# EAGLE library part CM6300 (library cmedia)
CM6300 is a highly integrated single chip for USB stereo speakers and headphone set application. With less external components, it can be used for building an USB speaker or headphone set solution easily. CM6300 needn’t any proprietary driver for audio playback or recording and all of audio functions are supported by major OS. As well as CM6300 provides a truly plug-and-play features for external digital audio playback. CM6300 contains embedded 2ch output with DRC managements. The Dynamic Range Control function can support high efficiency volume output and implement loudness sound effect, which is similar D class amplifier capabili ty. Moreover, CM6300 supports USB standard HID Interface which provide Vol_up / Vol_dn / Play_mute Butoms and 3 LED indicator pins: On / Off / Operation / playback mute / recording mute / and controllable flash time (with PWM Functions). Library by Dimitri Albino - ALDI Technology www.alditechnology.com
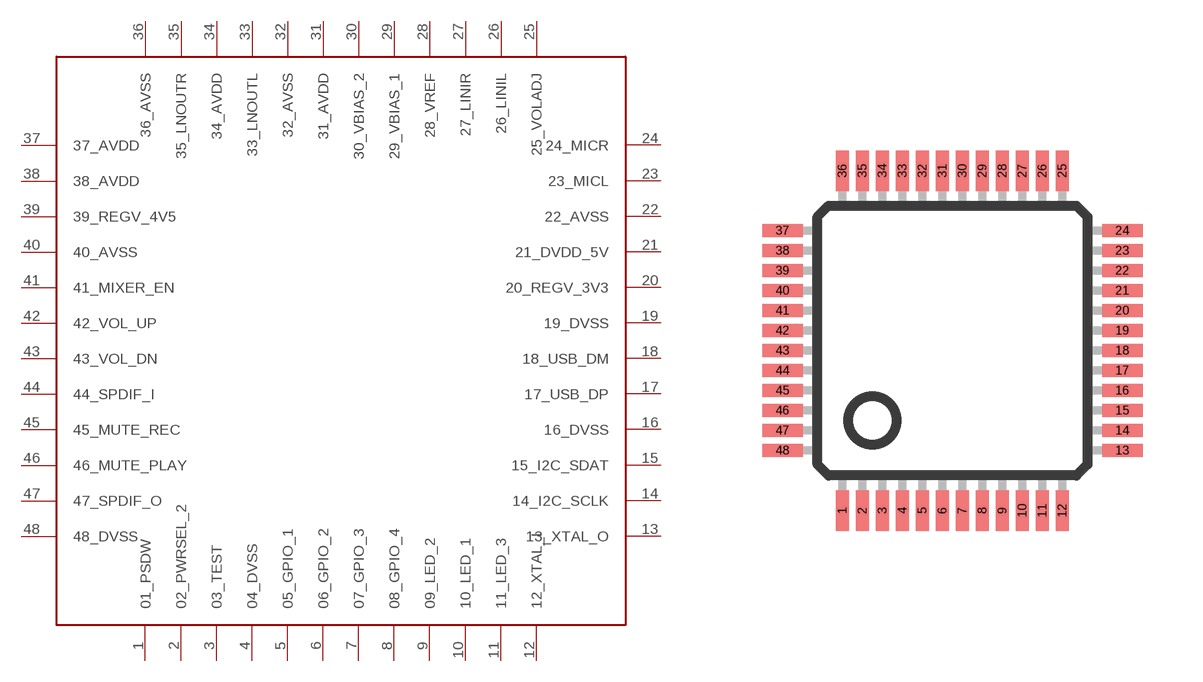
[diagram p0: symbol with the pads of LQFP-48; footprint LQFP-48]

Designator prefix -

## CM6300  [LQFP-48]
1  01_PSDW
2  02_PWRSEL_2
3  03_TEST
4  04_DVSS
5  05_GPIO_1
6  06_GPIO_2
7  07_GPIO_3
8  08_GPIO_4
9  09_LED_2
10  10_LED_1
11  11_LED_3
12  12_XTAL_I
13  13_XTAL_O
14  14_I2C_SCLK
15  15_I2C_SDAT
16  16_DVSS
17  17_USB_DP
18  18_USB_DM
19  19_DVSS
20  20_REGV_3V3
21  21_DVDD_5V
22  22_AVSS
23  23_MICL
24  24_MICR
25  25_VOLADJ
26  26_LINIL
27  27_LINIR
28  28_VREF
29  29_VBIAS_1
30  30_VBIAS_2
31  31_AVDD
32  32_AVSS
33  33_LNOUTL
34  34_AVDD
35  35_LNOUTR
36  36_AVSS
37  37_AVDD
38  38_AVDD
39  39_REGV_4V5
40  40_AVSS
41  41_MIXER_EN
42  42_VOL_UP
43  43_VOL_DN
44  44_SPDIF_I
45  45_MUTE_REC
46  46_MUTE_PLAY
47  47_SPDIF_O
48  48_DVSS

## Footprint LQFP-48 (pad centres in mm)
smd 0.318 x 1.016: 1 -2.75,-4.25; 2 -2.25,-4.25; 3 -1.75,-4.25; 4 -1.25,-4.25; 5 -0.75,-4.25; 6 -0.25,-4.25; 7 0.25,-4.25; 8 0.75,-4.25; 9 1.25,-4.25; 10 1.75,-4.25; 11 2.25,-4.25; 12 2.75,-4.25; 25 2.75,4.25; 26 2.25,4.25; 27 1.75,4.25; 28 1.25,4.25; 29 0.75,4.25; 30 0.25,4.25; 31 -0.25,4.25; 32 -0.75,4.25; 33 -1.25,4.25; 34 -1.75,4.25; 35 -2.25,4.25; 36 -2.75,4.25
smd 1.016 x 0.318: 13 4.25,-2.75; 14 4.25,-2.25; 15 4.25,-1.75; 16 4.25,-1.25; 17 4.25,-0.75; 18 4.25,-0.25; 19 4.25,0.25; 20 4.25,0.75; 21 4.25,1.25; 22 4.25,1.75; 23 4.25,2.25; 24 4.25,2.75; 37 -4.25,2.75; 38 -4.25,2.25; 39 -4.25,1.75; 40 -4.25,1.25; 41 -4.25,0.75; 42 -4.25,0.25; 43 -4.25,-0.25; 44 -4.25,-0.75; 45 -4.25,-1.25; 46 -4.25,-1.75; 47 -4.25,-2.25; 48 -4.25,-2.75